# EAGLE library part TPD8S300RUKR (library TPD8S300RUKR)
USB Type-C Port Protector: Short-to-VBUS Overvoltage and IEC ESD Protection Source: Datasheet <http://www.ti.com/lit/gpn/tpd8s300>
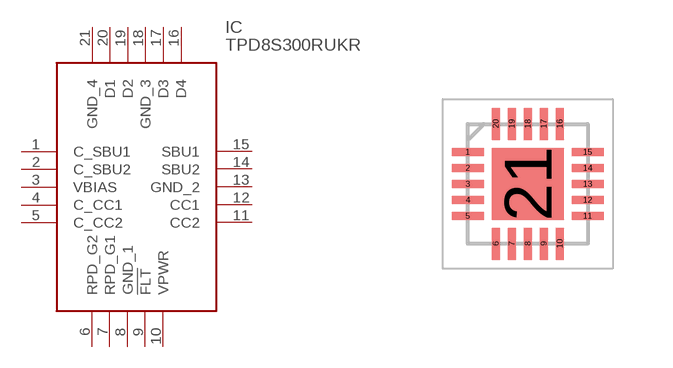
[diagram p0: symbol with the pads of QFN40P300X300X80-21N; footprint QFN40P300X300X80-21N]

Designator prefix IC

## TPD8S300RUKR (Arrow_Part_Number: TPD8S300RUKR; Arrow_Price-Stock: https://www.arrow.com/en/products/tpd8s300rukr/texas-instruments; Description: USB Type-C Port Protector: Short-to-VBUS Overvoltage and IEC ESD Protection; Height: 0.8mm; Manufacturer_Name: Texas Instruments; Manufacturer_Part_Number: TPD8S300RUKR; Mouser_Part_Number: 595-TPD8S300RUKR; Mouser_Price-Stock: https://www.mouser.co.uk/ProductDetail/Texas-Instruments/TPD8S300RUKR?qs=KuuZdrM3jLxuJ5q64YSnFw%3D%3D)  [QFN40P300X300X80-21N]
1  C_SBU1
2  C_SBU2
3  VBIAS
4  C_CC1
5  C_CC2
6  RPD_G2
7  RPD_G1
8  GND_1
9  !FLT
10  VPWR
11  CC2
12  CC1
13  GND_2
14  SBU2
15  SBU1
16  D4
17  D3
18  GND_3
19  D2
20  D1
21  GND_4

## Footprint QFN40P300X300X80-21N (pad centres in mm)
RUK (S-PWQFN-N20)
smd 0.8 x 0.2: 1 -1.5,0.8; 2 -1.5,0.4; 3 -1.5,0; 4 -1.5,-0.4; 5 -1.5,-0.8; 11 1.5,-0.8; 12 1.5,-0.4; 13 1.5,0; 14 1.5,0.4; 15 1.5,0.8
smd 0.2 x 0.8: 6 -0.8,-1.5; 7 -0.4,-1.5; 8 0,-1.5; 9 0.4,-1.5; 10 0.8,-1.5; 16 0.8,1.5; 17 0.4,1.5; 18 0,1.5; 19 -0.4,1.5; 20 -0.8,1.5
smd 1.8 x 1.8: 21 0,0